# Altium schematic symbol library Capacitors.SchLib: 15 symbols
Pins are listed as number, name and electrical type; pins without a type are passive.

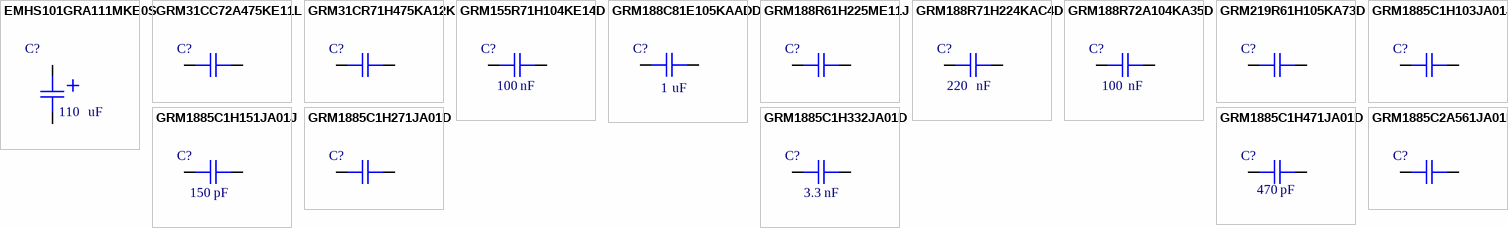
[diagram p0: symbols EMHS101GRA111MKE0S to GRM1885C2A561JA01D]

## EMHS101GRA111MKE0S
designator C?  value 110  Units: uF  (hidden comment: *)
Cap Aluminum Lytic 110uF 100V 20% (12.5 X 13.5mm) SMD 0.17 Ohm 920mA 5000h 125°C Automotive T/R; Manufacturer: United Chemi-Con; Manufacturer Part Number: EMHS101GRA111MKE0S; Supplier 1: Mouser; RoHS: Yes; Stock 1: 249; Pricing 1: 1=1.67000, 10=1.32000, 50=1.14000, 100=0.98600, 1000=0.65700, 10000=0.61300 (USD)
footprint CAPAE137130X140N-CHEMICON-MHS-KE0 (Aluminum Electrolytic Capacitor, Body 13.00x13.00x14.00mm, IPC Medium Density)
pins: 1, 2

## GRM31CC72A475KE11L
designator C?  (value not drawn)
Cap Ceramic 4.7uF 100V X7S 10% SMD 1206 125°C Emboss T/R; Manufacturer: Murata; Manufacturer Part Number: GRM31CC72A475KE11L; Value: 4.7; Units: uF; Supplier 1: Newark; RoHS: Yes; Category: Ceramic Capacitors; Stock 1: 3975; Pricing 1: 1=0.26300, 2000=0.25700, 4000=0.23800, 8000=0.22200, 12000=0.20700, 20000=0.19800 (USD); RoHS Compliant: Yes; ComponentLink1URL: https://search.murata.co.jp/Ceramy/image/img/A01X/G101/ENG/GRM31CC72A475KE11-01A.pdf?src-supplier=Digi-Key; ComponentLink1Description: https://search.murata.co.jp/Ceramy/image/img/A01X/G101/ENG/GRM31CC72A475KE11-01A.pdf?src-supplier=Digi-Key
footprint Chip2PinSM127P600-8N-MURATA-GRM-1206 (based in GRM31CR71H475KA12K)
pins: 1, 2

## GRM31CR71H475KA12K
designator C?  (value not drawn)
Cap 4.7UF 50VDC X7R 10% SMD 1206 Embossed Tape; Manufacturer: Murata; Manufacturer Part Number: GRM31CR71H475KA12K; Voltage Rating: 50V; Value: 4.7; Units: uF; Supplier 1: Mouser; RoHS: Yes; Category: Ceramic Capacitors; Stock 1: 1721; Pricing 1: 1=0.45000, 10=0.25500, 50=0.25500, 100=0.19000, 1000=0.12100, 10000=0.10800 (USD); Mount: Surface Mount; Case/Package: 1206; Min Operating Temperature: -55°C; Max Operating Temperature: 125°C; Packaging: Tape and Reel; Capacitance: 4.7uF; Tolerance: 10%; Voltage Rating (DC): 50V; Dielectric: X7R; Length: 0.126inch; Width: 0.063inch; Thickness: 0.071inch; RoHS Compliant: Yes; ComponentLink1URL: https://www.murata.com/~/media/webrenewal/support/library/catalog/products/capacitor/mlcc/c02e.ashx?la=en-us&src-supplier=Digi-Key; ComponentLink1Description: https://www.murata.com/~/media/webrenewal/support/library/catalog/products/capacitor/mlcc/c02e.ashx?la=en-us&src-supplier=Digi-Key
footprint Chip2PinSM127P600-8N-MURATA-GRM-1206 (based in GRM31CR71H475KA12K)
pins: 1, 2

## GRM155R71H104KE14D
designator C?  value 100  Units: nF  (hidden comment: *)
CAP CER 0.1UF 50V X7R 0402 / Cap Ceramic 0.1uF 50V X7R 10% Pad SMD 0402 125¡ãC T/R; Manufacturer: Murata; Manufacturer Part Number: GRM155R71H104KE14D; Capacitance: 100nF; Dissipation Factor: 0.025%; Supplier 1: Avnet; RoHS: Yes; Category: Ceramic Capacitors; Stock 1: 200000; Pricing 1: 10000=0.00392 (USD); Mount: Surface Mount; Case/Package: 0402; Case Code (Metric): 1005; Material: Ceramic; Case Code (Imperial): 0402; Weight: 0.000212oz; Dielectric Material: Ceramic; Min Operating Temperature: -55°C; Max Operating Temperature: 125°C; Tolerance: 10%; Packaging: Tape and Reel; Dielectric: X7R; Voltage Rating: 50V; Termination: SMD/SMT; Voltage: 50V; Resistor Type: Ceramic; Voltage Rating (DC): 50V; Package Quantity: 10000; Length: 1mm; Width: 0.5mm; Height: 0.5mm; Thickness: 0.022inch; Depth: 0.5mm; REACH SVHC: No SVHC; Lead Free: Lead Free; RoHS Compliant: Yes; ComponentLink1URL: http://www.farnell.com/datasheets/2079156.pdf?src-supplier=Farnell; ComponentLink1Description: http://www.farnell.com/datasheets/2079156.pdf?src-supplier=Farnell; ComponentLink2URL: http://www.mouser.com/ds/2/281/c02e-2905.pdf?src-supplier=Mouser; ComponentLink2Description: http://www.mouser.com/ds/2/281/c02e-2905.pdf?src-supplier=Mouser; ComponentLink3URL: http://components.arrow.com/part/dataview/0323_07030614?src-supplier=Arrow+Europe; ComponentLink3Description: http://components.arrow.com/part/dataview/0323_07030614?src-supplier=Arrow+Europe; ComponentLink4URL: https://search.murata.co.jp/Ceramy/image/img/A01X/G101/ENG/GRM155R71H104KE14-01.pdf?src-supplier=Digi-Key; ComponentLink4Description: https://search.murata.co.jp/Ceramy/image/img/A01X/G101/ENG/GRM155R71H104KE14-01.pdf?src-supplier=Digi-Key; ComponentLink5URL: http://psearch.en.murata.com/capacitor/product/GRM155R71H104KE14%23.pdf?src-supplier=Avnet; ComponentLink5Description: http://psearch.en.murata.com/capacitor/product/GRM155R71H104KE14%23.pdf?src-supplier=Avnet; ComponentLink6URL: http://www.farnell.com/datasheets/2079156.pdf?src-supplier=Element14; ComponentLink6Description: http://www.farnell.com/datasheets/2079156.pdf?src-supplier=Element14; ComponentLink7URL: http://www.farnell.com/datasheets/2079156.pdf?src-supplier=Newark; ComponentLink7Description: http://www.farnell.com/datasheets/2079156.pdf?src-supplier=Newark
footprint Chip2PinSM127P600-8N-MURATA-GRM-0402 (based in GRM155R71H104KE14D)
pins: 1, 2

## GRM188C81E105KAADD
designator C?  value 1  Units: uF  (hidden comment: *)
Multilayer Ceramic Capacitor, Grm Series, 1 - F, - 10%, X6S, 25 V, 0603 [1608 Metric] Rohs Compliant: Yes; Manufacturer: Murata; Manufacturer Part Number: GRM188C81E105KAADD; Voltage Rating: 25V; Capacitance: 1uF; Supplier 1: Arrow Electronics; RoHS: Yes; Category: Ceramic Capacitors; Stock 1: 16000; Pricing 1: 4000=0.05700, 8000=0.05440 (USD); Mount: Surface Mount; Case/Package: 0603; Case Code (Imperial): 0603; Case Code (Metric): 1608; Min Operating Temperature: -55°C; Max Operating Temperature: 105°C; Packaging: Tape and Reel; Tolerance: 10%; Voltage Rating (DC): 25V; Dielectric: X6S; Voltage: 25V; Length: 1.6mm; Width: 800um; Height: 0.8mm; Thickness: 800um; Depth: 0.8mm; REACH SVHC: No SVHC; ComponentLink1URL: https://datasheet.ciiva.com/11785/0900766b81023a1e-11785887.pdf?src-supplier=RSComponents; ComponentLink1Description: https://datasheet.ciiva.com/11785/0900766b81023a1e-11785887.pdf?src-supplier=RSComponents; ComponentLink2URL: https://datasheet.ciiva.com/46424/1754690-46424155.pdf?src-supplier=Element14; ComponentLink2Description: https://datasheet.ciiva.com/46424/1754690-46424155.pdf?src-supplier=Element14; Package: 0603; Type: Capacitor
footprint Chip2PinSM127P600-8N-MURATA-0603-GRM
pins: 1, 2

## GRM188R61H225ME11J
designator C?  (value not drawn)
Cap Ceramic 2.2uF 50VDC X5R 20% 0603 Paper T/R; Manufacturer: Murata; Manufacturer Part Number: GRM188R61H225ME11J; Value: 2.2; Units: uF; Supplier 1: Digi-Key; RoHS: Yes; Category: Ceramic Capacitors; Stock 1: 815; Pricing 1: 1=0.35000, 10=0.23800, 50=0.15840, 100=0.13460, 500=0.09504, 1000=0.08316, 2500=0.07920, 5000=0.07326 (USD); RoHS Compliant: Yes
footprint Chip2PinSM127P600-8N-MURATA-0603-GRM
pins: 1, 2

## GRM188R71H224KAC4D
designator C?  value 220  Units: nF  (hidden comment: *)
0603 0.22 uF 50 V ±10% Tolerance X7R Multilayer Ceramic Capacitor; Manufacturer: Murata; Manufacturer Part Number: GRM188R71H224KAC4D; Capacitance: 220nF; Voltage Rating: 50V; Supplier 1: Newark; RoHS: Yes; Category: Ceramic Capacitors; Stock 1: 60000; Pricing 1: 1=0.04300, 4000=0.04100, 8000=0.03800 (USD); Mount: Surface Mount; Case/Package: 0603; Case Code (Metric): 1608; Case Code (Imperial): 0603; Min Operating Temperature: -55°C; Max Operating Temperature: 125°C; Packaging: Tape and Reel; Tolerance: 10%; Voltage Rating (DC): 50V; Length: 0.063inch; Width: 0.031inch; Thickness: 0.035inch; Lead Free: Lead Free; RoHS Compliant: Yes; ComponentLink1URL: http://www.farnell.com/datasheets/2189130.pdf?src-supplier=Farnell; ComponentLink1Description: http://www.farnell.com/datasheets/2189130.pdf?src-supplier=Farnell; ComponentLink2URL: http://psearch.en.murata.com/capacitor/product/GRM188R71H224KAC4%23.pdf?src-supplier=Avnet; ComponentLink2Description: http://psearch.en.murata.com/capacitor/product/GRM188R71H224KAC4%23.pdf?src-supplier=Avnet; ComponentLink3URL: http://www.farnell.com/datasheets/2189130.pdf?src-supplier=Element14; ComponentLink3Description: http://www.farnell.com/datasheets/2189130.pdf?src-supplier=Element14; ComponentLink4URL: http://search.murata.co.jp/Ceramy/image/img/A01X/G101/ENG/GRM188R71H224KAC4-01.pdf?src-supplier=Digi-Key; ComponentLink4Description: http://search.murata.co.jp/Ceramy/image/img/A01X/G101/ENG/GRM188R71H224KAC4-01.pdf?src-supplier=Digi-Key
footprint Chip2PinSM127P600-8N-MURATA-0603-GRM
pins: 1, 2

## GRM188R72A104KA35D
designator C?  value 100  Units: nF  (hidden comment: *)
CAP CER 0.1UF 100V X7R 0603; Manufacturer Part Number: GRM188R72A104KA35D; Manufacturer: Murata; Material: Ceramic; Capacitance: 100nF; Tolerance: 10%; Supplier 1: Newark; RoHS: Yes; Category: Ceramic Capacitors; Stock 1: 4000; Pricing 1: 1=0,06400, 20000=0,06000 (USD); Mount: Surface Mount; Case/Package: 0603; Weight: 0.000222oz; Case Code (Imperial): 0603; Case Code (Metric): 1608; Min Operating Temperature: -55°C; Max Operating Temperature: 125°C; Dielectric: X7R; Voltage Rating: 100V; Voltage Rating (DC): 100V; Packaging: Tape and Reel; Package Quantity: 1; Termination: SMD/SMT; Voltage: 100V; Series: GRM; Construction: Flat; Length: 1.6mm; Width: 0.8mm; Height: 0.8mm; Thickness: 0.035inch; Depth: 0.8mm; Size: 0.8mm; Radiation Hardening: No; REACH SVHC: No SVHC; Lead Free: Lead Free; RoHS Compliant: Yes; ComponentLink1URL: https://datasheet.ciiva.com/22703/1747473-22703345.pdf?src-supplier=Element14; ComponentLink1Description: https://datasheet.ciiva.com/22703/1747473-22703345.pdf?src-supplier=Element14; ComponentLink2URL: https://datasheet.ciiva.com/34302/1857815-34302863.pdf?src-supplier=Jameco; ComponentLink2Description: https://datasheet.ciiva.com/34302/1857815-34302863.pdf?src-supplier=Jameco; ComponentLink3URL: https://datasheet.ciiva.com/11787/0900766b80ef921d-11787064.pdf?src-supplier=RSComponents; ComponentLink3Description: https://datasheet.ciiva.com/11787/0900766b80ef921d-11787064.pdf?src-supplier=RSComponents; ComponentLink4URL: https://datasheet.ciiva.com/18100/getdatasheetpartid-27818-18100710.pdf?src-supplier=Verical; ComponentLink4Description: https://datasheet.ciiva.com/18100/getdatasheetpartid-27818-18100710.pdf?src-supplier=Verical; ComponentLink5URL: https://datasheet.ciiva.com/29201/451984-da-01-en-vs-kondensator-0603-29201725.pdf?src-supplier=Conrad; ComponentLink5Description: https://datasheet.ciiva.com/29201/451984-da-01-en-vs-kondensator-0603-29201725.pdf?src-supplier=Conrad; ComponentLink6URL: https://datasheet.ciiva.com/7937/1747473-7937676.pdf?src-supplier=Element14; ComponentLink6Description: https://datasheet.ciiva.com/7937/1747473-7937676.pdf?src-supplier=Element14; ComponentLink7URL: https://datasheet.ciiva.com/135/partnumbering-e-01-135140.pdf?src-supplier=Digi-Key; ComponentLink7Description: https://datasheet.ciiva.com/135/partnumbering-e-01-135140.pdf?src-supplier=Digi-Key; ComponentLink8URL: https://datasheet.ciiva.com/135/partnumbering-e-01-135139.pdf?src-supplier=Digi-Key; ComponentLink8Description: https://datasheet.ciiva.com/135/partnumbering-e-01-135139.pdf?src-supplier=Digi-Key; ComponentLink9URL: https://datasheet.ciiva.com/135/partnumbering-e-01-135141.pdf?src-supplier=Digi-Key; ComponentLink9Description: https://datasheet.ciiva.com/135/partnumbering-e-01-135141.pdf?src-supplier=Digi-Key; ComponentLink10URL: https://datasheet.ciiva.com/16382/product-16382965.pdf?src-supplier=Future+Electronics; ComponentLink10Description: https://datasheet.ciiva.com/16382/product-16382965.pdf?src-supplier=Future+Electronics
footprint Chip2PinSM127P600-8N-MURATA-0603-GRM
pins: 1, 2

## GRM219R61H105KA73D
designator C?  (value not drawn)
Cap Ceramic 1uF 50V X5R 10% SMD 0805 85°C Paper T/R; Manufacturer: Murata; Manufacturer Part Number: GRM219R61H105KA73D; Dissipation Factor: 0.025%; Value: 1; Units: uF; Supplier 1: Avnet; RoHS: Yes; Category: Ceramic Capacitors; Stock 1: 24000; Pricing 1: 4000=0.02830 (USD); Mount: Surface Mount; Case/Package: 0805; Number of Pins: 2; Case Code (Metric): 2012; Case Code (Imperial): 0805; Material: Ceramic; Weight: 0.000335oz; Dielectric Material: Ceramic; Min Operating Temperature: -55°C; Max Operating Temperature: 85°C; Packaging: Tape and Reel; Capacitance: 1uF; Tolerance: 10%; Voltage Rating: 50V; Dielectric: X5R; Voltage: 50V; Termination: SMD/SMT; Resistor Type: Ceramic; Voltage Rating (DC): 50V; Package Quantity: 4000; Series: GRM; Length: 2mm; Width: 1.25mm; Height: 0.85mm; Thickness: 0.037inch; Depth: 1.25mm; REACH SVHC: No SVHC; Lead Free: Lead Free; RoHS Compliant: Yes; ComponentLink1URL: https://datasheet.ciiva.com/22706/1747465-22706804.pdf?src-supplier=Element14; ComponentLink1Description: https://datasheet.ciiva.com/22706/1747465-22706804.pdf?src-supplier=Element14; ComponentLink2URL: https://datasheet.ciiva.com/7719/1747465-7719067.pdf?src-supplier=Element14; ComponentLink2Description: https://datasheet.ciiva.com/7719/1747465-7719067.pdf?src-supplier=Element14
footprint Chip2PinSM127P600-8N-GRM-0805-MURATA
pins: 1, 2

## GRM1885C1H103JA01J
designator C?  (value not drawn)
Cap Ceramic 0.01uF 50V C0G 5% Pad SMD 0603 125C T/R; Manufacturer: Murata; Manufacturer Part Number: GRM1885C1H103JA01J; Capacitance: 10nF; Value: 10; Units: nF; Supplier 1: Newark; RoHS: Yes; Category: Ceramic Capacitors; Stock 1: 10000; Pricing 1: 1=0.03900, 10000=0.03300, 20000=0.02600, 40000=0.01800 (USD); Mount: Surface Mount; Case/Package: 0603; Case Code (Imperial): 0603; Case Code (Metric): 1608; Weight: 0.000222oz; Min Operating Temperature: -55°C; Max Operating Temperature: 125°C; Packaging: Tape and Reel; Voltage Rating: 50V; Tolerance: 5%; Dielectric: C0G; Termination: SMD/SMT; Resistor Type: Ceramic; Voltage Rating (DC): 50V; Package Quantity: 10000; Length: 0.063inch; Width: 0.8mm; Height: 0.8mm; Thickness: 0.035inch; RoHS Compliant: Yes; ComponentLink1URL: http://www.mouser.com/ds/2/281/GRM1885C1H103JA01-01-1064649.pdf?src-supplier=Mouser; ComponentLink1Description: http://www.mouser.com/ds/2/281/GRM1885C1H103JA01-01-1064649.pdf?src-supplier=Mouser; ComponentLink2URL: http://search.murata.co.jp/Ceramy/image/img/A01X/partnumbering_e_01.pdf?src-supplier=Digi-Key; ComponentLink2Description: http://search.murata.co.jp/Ceramy/image/img/A01X/partnumbering_e_01.pdf?src-supplier=Digi-Key
footprint Chip2PinSM127P600-8N-MURATA-0603-GRM
pins: 1, 2

## GRM1885C1H151JA01J
designator C?  value 150  Units: pF  (hidden comment: *)
0603 150 pF 50 V ±5% Tolerance C0G SMT Multilayer Ceramic Capacitor; Manufacturer: Murata; Manufacturer Part Number: GRM1885C1H151JA01J; Capacitance: 150pF; Voltage Rating: 50V; Supplier 1: Digi-Key; RoHS: Yes; Category: Ceramic Capacitors; Stock 1: 93048; Pricing 1: 1=0.12000, 10=0.08500, 50=0.04620, 100=0.03770, 500=0.02696, 1000=0.02118, 2500=0.01925, 5000=0.01771 (USD); Mount: Surface Mount; Case/Package: 0603; Case Code (Imperial): 0603; Case Code (Metric): 1608; Min Operating Temperature: -55°C; Max Operating Temperature: 125°C; Voltage Rating (DC): 50V; Tolerance: 5%; Packaging: Tape and Reel; Package Quantity: 10000; Dielectric: C0G; Termination: SMD/SMT; Voltage: 50V; Series: GRM; Construction: Flat; Length: 1.6mm; Width: 0.031inch; Height: 0.8mm; Thickness: 0.035inch; Depth: 0.8mm; Radiation Hardening: No; Lead Free: Lead Free; RoHS Compliant: Yes; ComponentLink1URL: https://datasheet.ciiva.com/11617/product-11617736.pdf?src-supplier=Avnet; ComponentLink1Description: https://datasheet.ciiva.com/11617/product-11617736.pdf?src-supplier=Avnet; ComponentLink2URL: https://datasheet.ciiva.com/164/partnumbering-e-01-164526.pdf?src-supplier=Digi-Key; ComponentLink2Description: https://datasheet.ciiva.com/164/partnumbering-e-01-164526.pdf?src-supplier=Digi-Key
footprint Chip2PinSM127P600-8N-MURATA-0603-GRM
pins: 1, 2

## GRM1885C1H271JA01D
designator C?  (value not drawn)
CAP CER 270PF 50V C0G/NP0 0603; Manufacturer: Murata; Manufacturer Part Number: GRM1885C1H271JA01D; Material: Ceramic; Tolerance: 5%; Dielectric: C0G; Temperature Coefficient: 30ppm/°C; Value: 270; Units: pF; Supplier 1: Avnet; RoHS: Yes; Category: Ceramic Capacitors; Stock 1: 40000; Pricing 1: 4000=0.02513, 8000=0.02340, 16000=0.02342, 24000=0.02345, 32000=0.02348, 40000=0.02351, 400000=0.02355 (USD); Mount: Surface Mount; Case/Package: 0603; Case Code (Metric): 1608; Case Code (Imperial): 0603; Min Operating Temperature: -55°C; Max Operating Temperature: 125°C; Capacitance: 270pF; Package Quantity: 1; Voltage Rating: 50V; Packaging: Tape and Reel; Voltage Rating (DC): 50V; Termination: SMD/SMT; Voltage: 50V; Length: 1.6mm; Width: 0.031inch; Height: 0.8mm; Thickness: 0.035inch; Depth: 0.8mm; Radiation Hardening: No; REACH SVHC: No SVHC; Lead Free: Lead Free; RoHS Compliant: Yes; ComponentLink1URL: https://datasheet.ciiva.com/131/product-131954.pdf?src-supplier=Digi-Key; ComponentLink1Description: https://datasheet.ciiva.com/131/product-131954.pdf?src-supplier=Digi-Key; ComponentLink2URL: https://datasheet.ciiva.com/18102/getdatasheetpartid-75296-18102651.pdf?src-supplier=Verical; ComponentLink2Description: https://datasheet.ciiva.com/18102/getdatasheetpartid-75296-18102651.pdf?src-supplier=Verical; ComponentLink3URL: https://datasheet.ciiva.com/131/partnumbering-e-01-131955.pdf?src-supplier=Digi-Key; ComponentLink3Description: https://datasheet.ciiva.com/131/partnumbering-e-01-131955.pdf?src-supplier=Digi-Key; ComponentLink4URL: https://datasheet.ciiva.com/131/partnumbering-e-01-131956.pdf?src-supplier=Digi-Key; ComponentLink4Description: https://datasheet.ciiva.com/131/partnumbering-e-01-131956.pdf?src-supplier=Digi-Key; ComponentLink5URL: https://datasheet.ciiva.com/29241/450697-da-01-en-vs-kondensator-0603-29241786.pdf?src-supplier=Conrad; ComponentLink5Description: https://datasheet.ciiva.com/29241/450697-da-01-en-vs-kondensator-0603-29241786.pdf?src-supplier=Conrad
footprint Chip2PinSM127P600-8N-MURATA-0603-GRM
pins: 1, 2

## GRM1885C1H332JA01D
designator C?  value 3.3  Units: nF  (hidden comment: *)
CAP CER 3300PF 50V C0G/NP0 0603; Manufacturer: Murata; Manufacturer Part Number: GRM1885C1H332JA01D; Material: Ceramic; Capacitance: 3.3nF; Tolerance: 5%; Dielectric: C0G; Supplier 1: RSComponents; RoHS: Yes; Category: Ceramic Capacitors; Stock 1: 1; Pricing 1: 100=0.06500, 500=0.05500, 1000=0.04800, 2500=0.04200, 5000=0.03900 (USD); Mount: Surface Mount; Case/Package: 0603; Case Code (Metric): 1608; Case Code (Imperial): 0603; Min Operating Temperature: -55°C; Max Operating Temperature: 125°C; Voltage Rating: 50V; Packaging: Tape and Reel; Package Quantity: 4000; Termination: SMD/SMT; Voltage: 50V; Voltage Rating (DC): 50V; Series: GRM; Construction: Flat; Length: 1.6mm; Width: 0.031inch; Height: 0.8mm; Thickness: 0.035inch; Depth: 0.8mm; Radiation Hardening: No; REACH SVHC: No SVHC; Lead Free: Lead Free; RoHS Compliant: Yes; ComponentLink1URL: https://datasheet.ciiva.com/6270/product-6270530.pdf?src-supplier=Digi-Key; ComponentLink1Description: https://datasheet.ciiva.com/6270/product-6270530.pdf?src-supplier=Digi-Key; ComponentLink2URL: https://datasheet.ciiva.com/29202/450783-da-01-en-vs-kondensator-0603-29202805.pdf?src-supplier=Conrad; ComponentLink2Description: https://datasheet.ciiva.com/29202/450783-da-01-en-vs-kondensator-0603-29202805.pdf?src-supplier=Conrad; ComponentLink3URL: https://datasheet.ciiva.com/5417/product-5417082.pdf?src-supplier=Mouser; ComponentLink3Description: https://datasheet.ciiva.com/5417/product-5417082.pdf?src-supplier=Mouser
footprint Chip2PinSM127P600-8N-MURATA-0603-GRM
pins: 1, 2

## GRM1885C1H471JA01D
designator C?  value 470  Units: pF  (hidden comment: *)
CAP CER 470PF 50V C0G/NP0 0603; Manufacturer: Murata; Manufacturer Part Number: GRM1885C1H471JA01D; Material: Ceramic; Tolerance: 5%; Dielectric: C0G; Temperature Coefficient: 30ppm/°C; Insulation Resistance: 10GR; Supplier 1: Newark; RoHS: Yes; Category: Ceramic Capacitors; Stock 1: 1; Pricing 1: 1=0.00300, 10=0.00300, 25=0.00300, 50=0.00300, 100=0.00300 (USD); Mount: Surface Mount; Case/Package: 0603; Number of Pins: 2; Case Code (Imperial): 0603; Case Code (Metric): 1608; Dielectric Material: Ceramic; Min Operating Temperature: -55°C; Max Operating Temperature: 125°C; Capacitance: 470pF; Voltage Rating: 50V; Voltage Rating (DC): 50V; Packaging: Tape and Reel; Package Quantity: 1; Termination: SMD/SMT; Voltage: 50V; Series: GRM; Construction: Flat; Length: 1.6mm; Width: 0.8mm; Height: 0.8mm; Thickness: 0.035inch; Depth: 0.8mm; Size: 0.8mm; Radiation Hardening: No; REACH SVHC: No SVHC; Lead Free: Lead Free; RoHS Compliant: Yes; ComponentLink1URL: https://datasheet.ciiva.com/19467/1856994-19467714.pdf?src-supplier=Jameco; ComponentLink1Description: https://datasheet.ciiva.com/19467/1856994-19467714.pdf?src-supplier=Jameco; ComponentLink2URL: https://datasheet.ciiva.com/18101/getdatasheetpartid-55997-18101673.pdf?src-supplier=Verical; ComponentLink2Description: https://datasheet.ciiva.com/18101/getdatasheetpartid-55997-18101673.pdf?src-supplier=Verical; ComponentLink3URL: https://datasheet.ciiva.com/29202/450892-da-01-en-vs-kondensator-0603-29202692.pdf?src-supplier=Conrad; ComponentLink3Description: https://datasheet.ciiva.com/29202/450892-da-01-en-vs-kondensator-0603-29202692.pdf?src-supplier=Conrad; ComponentLink4URL: https://datasheet.ciiva.com/6031/4360-6031804.pdf?src-supplier=Farnell; ComponentLink4Description: https://datasheet.ciiva.com/6031/4360-6031804.pdf?src-supplier=Farnell; ComponentLink5URL: https://datasheet.ciiva.com/7828/4360-7828937.pdf?src-supplier=Element14; ComponentLink5Description: https://datasheet.ciiva.com/7828/4360-7828937.pdf?src-supplier=Element14; ComponentLink6URL: https://datasheet.ciiva.com/14116/grmseries-tc-hitype-eng-14116831.pdf?src-supplier=Distrelec; ComponentLink6Description: https://datasheet.ciiva.com/14116/grmseries-tc-hitype-eng-14116831.pdf?src-supplier=Distrelec; ComponentLink7URL: https://datasheet.ciiva.com/132/partnumbering-e-01-132201.pdf?src-supplier=Digi-Key; ComponentLink7Description: https://datasheet.ciiva.com/132/partnumbering-e-01-132201.pdf?src-supplier=Digi-Key; ComponentLink8URL: https://datasheet.ciiva.com/132/partnumbering-e-01-132200.pdf?src-supplier=Digi-Key; ComponentLink8Description: https://datasheet.ciiva.com/132/partnumbering-e-01-132200.pdf?src-supplier=Digi-Key; ComponentLink9URL: https://datasheet.ciiva.com/132/partnumbering-e-01-132202.pdf?src-supplier=Digi-Key; ComponentLink9Description: https://datasheet.ciiva.com/132/partnumbering-e-01-132202.pdf?src-supplier=Digi-Key; ComponentLink10URL: https://datasheet.ciiva.com/7828/4360-7828936.pdf?src-supplier=Element14; ComponentLink10Description: https://datasheet.ciiva.com/7828/4360-7828936.pdf?src-supplier=Element14; ComponentLink11URL: https://datasheet.ciiva.com/7828/4360-7828938.pdf?src-supplier=Element14; ComponentLink11Description: https://datasheet.ciiva.com/7828/4360-7828938.pdf?src-supplier=Element14; ComponentLink12URL: https://datasheet.ciiva.com/16335/product-16335804.pdf?src-supplier=Future+Electronics; ComponentLink12Description: https://datasheet.ciiva.com/16335/product-16335804.pdf?src-supplier=Future+Electronics
footprint Chip2PinSM127P600-8N-MURATA-0603-GRM
pins: 1, 2

## GRM1885C2A561JA01D
designator C?  (value not drawn)
0603 560 pF 100 V ±5% Tolerance C0G SMT Multilayer Ceramic Capacitor; Manufacturer: Murata; Manufacturer Part Number: GRM1885C2A561JA01D; Capacitance: 560pF; Voltage Rating: 100V; Value: 560; Supplier 1: Avnet; RoHS: Yes; Category: Ceramic Capacitors; Stock 1: 8000; Pricing 1: 4000=0.01988, 8000=0.01932, 16000=0.01876, 24000=0.01820, 32000=0.01764 (USD); Mount: Surface Mount; Case/Package: 0603; Case Code (Imperial): 0603; Case Code (Metric): 1608; Material: Ceramic; Min Operating Temperature: -55°C; Max Operating Temperature: 125°C; Tolerance: 5%; Dielectric: C0G; Voltage Rating (DC): 100V; Packaging: Tape and Reel; Package Quantity: 1; Termination: SMD/SMT; Series: GRM; Construction: Flat; Length: 1.6mm; Width: 0.8mm; Height: 0.8mm; Thickness: 0.035inch; Depth: 0.8mm; Radiation Hardening: No; Lead Free: Lead Free; RoHS Compliant: Yes; ComponentLink1URL: https://datasheet.ciiva.com/11604/product-11604234.pdf?src-supplier=Avnet; ComponentLink1Description: https://datasheet.ciiva.com/11604/product-11604234.pdf?src-supplier=Avnet; ComponentLink2URL: https://datasheet.ciiva.com/133/partnumbering-e-01-133612.pdf?src-supplier=Digi-Key; ComponentLink2Description: https://datasheet.ciiva.com/133/partnumbering-e-01-133612.pdf?src-supplier=Digi-Key; ComponentLink3URL: https://datasheet.ciiva.com/133/partnumbering-e-01-133613.pdf?src-supplier=Digi-Key; ComponentLink3Description: https://datasheet.ciiva.com/133/partnumbering-e-01-133613.pdf?src-supplier=Digi-Key; ComponentLink4URL: https://datasheet.ciiva.com/133/partnumbering-e-01-133614.pdf?src-supplier=Digi-Key; ComponentLink4Description: https://datasheet.ciiva.com/133/partnumbering-e-01-133614.pdf?src-supplier=Digi-Key; Units: pF
footprint Chip2PinSM127P600-8N-MURATA-0603-GRM
pins: 1, 2